# Altium footprint library Semiconductors.PCBLIB: 5 footprints
Each footprint in its own frame and in the unit in brackets; x right, y up, seen from the top. Pads: shape width x height; smd on the part's side, far side on the other; paste and mask are expansions set on the pad; w line width, h text height; cw(c..) or ccw(c..) is an arc to the next point about the centre after c.
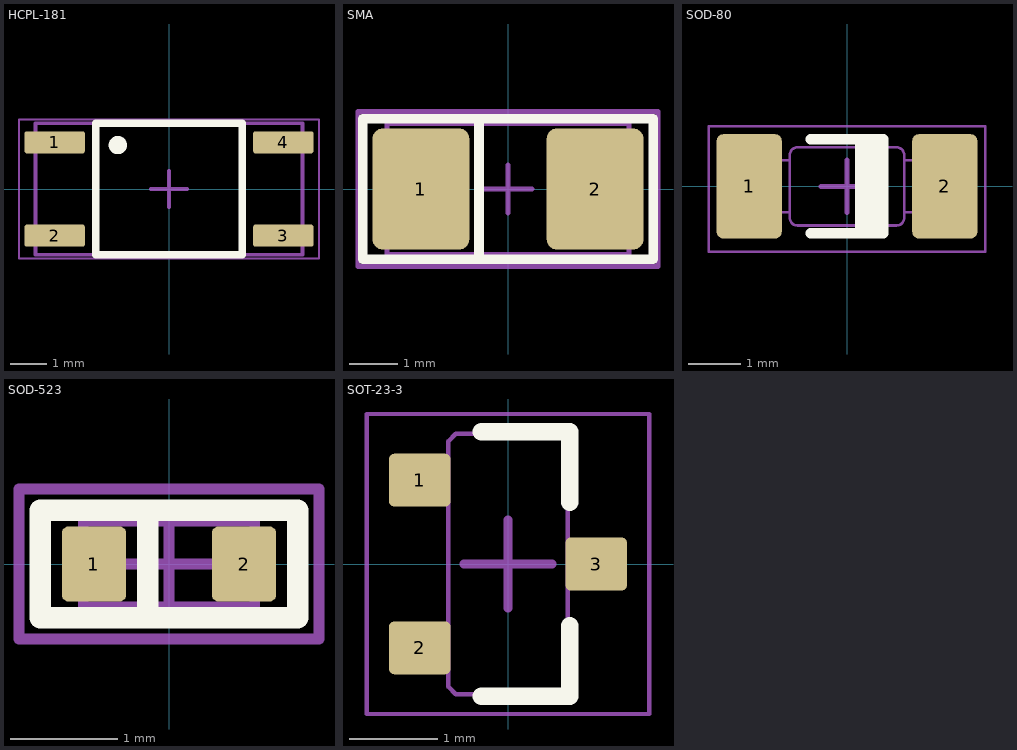
[diagram p0: the footprints below, top view; thin cyan lines are the x and y axes]

## HCPL-181 [mm] "SOT143, 4-Leads, Body 3,70x6,75mm, Pitch 2,55mm, IPC Medium Density"
height 2.2
pads (4):
  rrect20% 1.65x0.6 smd: 1(-3.125,1.275) 2(-3.125,-1.275) 3(3.125,-1.275) 4(3.125,1.275)
Top Overlay:
  circle w0.25: c-1.4,1.2 r0.125
  lines w0.2: -2,-1.8 2,-1.8 2,1.8 -2,1.8 -2,-1.8
Mechanical 1:
  lines w0.1: -3.65,-1.8 3.65,-1.8 3.65,1.8 -3.65,1.8 -3.65,-1.8
Mechanical 15:
  lines w0.05: -4.1,-1.9 -4.1,1.9 4.1,1.9 4.1,-1.9 -4.1,-1.9
  lines w0.1: -0.5,0 0.5,0 ; 0,-0.5 0,0.5
3D body "SO-4_4.4x3.6mm_P2.54mm.step": height 1.1, standoff 0, extent -3.65,-1.8 3.65,1.8

## SMA [mm]
pads (2):
  rrect20% 2x2.5 smd: 1(-1.8,0) 2(1.8,0)
Top Overlay:
  lines w0.2: -0.6,-1.45 -0.6,1.45 ; -3,-1.45 3,-1.45 3,1.45 -3,1.45 -3,-1.45
Mechanical 1:
  lines w0.1: -2.5,-1.35 -2.5,1.35 2.5,1.35 2.5,-1.35 -2.5,-1.35
Mechanical 15:
  lines w0.1: -0.5,0 0.5,0 ; 0,-0.5 0,0.5 ; -3.1,-1.6 -3.1,1.6 3.1,1.6 3.1,-1.6 -3.1,-1.6
3D body "D_SMA.step": height 2.22, standoff 0, extent -2.5,-1.35 2.5,1.35

## SOD-80 [mm] "MELF Diode, 2-Leads, Body 3.50x1.50mm, IPC Medium Density"
height 1.6
pads (2):
  rrect20% 1.25x2 smd: 1(-1.875,0) 2(1.875,0)
Top Overlay:
  rectangle: 0.15,-0.9 0.7,0.9
  lines w0.2: -0.7,-0.9 0.7,-0.9 0.7,0.9 -0.7,0.9
Mechanical 1:
  lines w0.05: -1.3,-0.498 -1.098,-0.498 ; -1.3,0.498 -1.098,0.498 ; 1.098,-0.498 1.3,-0.498 ; 1.098,0.498 1.3,0.498 ; 0.554,-0.751 0.554,0.751 ; 0.554,-0.75 -0.948,-0.75 cw(c-0.948,-0.6) -1.098,-0.6 -1.098,0.6 cw(c-0.948,0.6) -0.948,0.75 0.554,0.75 ; 0.554,-0.751 0.749,-0.751 ; 0.554,0.751 0.749,0.751 ; 0.749,-0.751 0.749,0.751 ; 0.749,-0.75 0.948,-0.75 ccw(c0.948,-0.6) 1.098,-0.6 1.098,0.6 ccw(c0.948,0.6) 0.948,0.75 0.749,0.75 ; -1.7,-0.55 ccw(c-1.5,-0.55) -1.3,-0.55 -1.3,0.55 ccw(c-1.5,0.55) -1.7,0.55 -1.7,-0.55 ; 1.3,-0.55 ccw(c1.5,-0.55) 1.7,-0.55 1.7,0.55 ccw(c1.5,0.55) 1.3,0.55 1.3,-0.55
Mechanical 15:
  lines w0.05: -2.65,-1.25 -2.65,1.15 2.65,1.15 2.65,-1.25 -2.65,-1.25
  lines w0.1: -0.5,0 0.5,0 ; 0,-0.5 0,0.5
3D body "SOD-80 MiniMELF.step": height 1.5, standoff 0, extent -1.7,-0.751 1.7,0.751

## SOD-523 [mm]
pads (2):
  rrect20% 0.6x0.7 smd: 1(-0.7,0) 2(0.7,0)
Top Overlay:
  lines w0.2: -0.2,-0.5 -0.2,0.5 ; -1.2,-0.5 -1.2,0.5 1.2,0.5 1.2,-0.5 -1.2,-0.5
Mechanical 1:
  lines w0.1: -0.8,-0.4 0.8,-0.4 0.8,0.4 -0.8,0.4 -0.8,-0.4
Mechanical 15:
  lines w0.1: -0.6,0 0.4,0 ; 0,-0.5 0,0.5 ; -1.4,-0.7 -1.4,0.7 1.4,0.7 1.4,-0.7 -1.4,-0.7
3D body "D_SOD-523.step": height 0.63, standoff 0, extent -0.8,-0.4 0.8,0.4

## SOT-23-3 [mm] "SOT23, 3-Leads, Body 2.90x2.30mm, Pitch 0.95mm, IPC Medium Density"
height 1.1
pads (3):
  rrect20% 0.7x0.6 smd: 1(-1,0.95) 2(-1,-0.95) 3(1,0)
Top Overlay:
  lines w0.2: -0.3,-1.5 0.7,-1.5 0.7,-0.7 ; -0.3,1.5 0.7,1.5 0.7,0.7
Mechanical 1:
  lines w0.05: -0.675,-1.15 -1.25,-1.15 -1.25,-0.75 -0.675,-0.75 ; -0.675,0.75 -1.25,0.75 -1.25,1.15 -0.675,1.15 ; 0.675,-0.2 1.25,-0.2 1.25,0.2 0.675,0.2 ; -0.675,-1.392 -0.593,-1.475 0.593,-1.475 0.675,-1.392 0.675,1.392 0.593,1.475 -0.593,1.475 -0.675,1.392 -0.675,-1.392
Mechanical 15:
  lines w0.05: -1.6,-1.7 -1.6,1.7 1.6,1.7 1.6,-1.7 -1.6,-1.7
  lines w0.1: -0.5,0 0.5,0 ; 0,-0.5 0,0.5
3D body "SOT-23.step": height 1.2, standoff 0, extent -1.25,-1.5 1.25,1.5